# Altium footprint library SRN8040.PcbLib: 1 footprints
Each footprint in its own frame and in the unit in brackets; x right, y up, seen from the top. Pads: shape width x height; smd on the part's side, far side on the other; paste and mask are expansions set on the pad; w line width, h text height; cw(c..) or ccw(c..) is an arc to the next point about the centre after c.
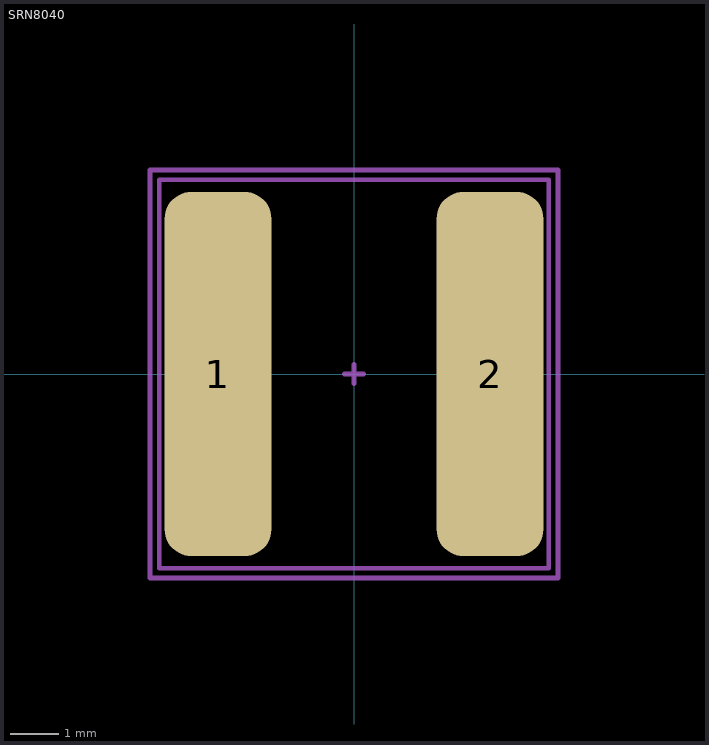
[diagram p0: the footprint, top view; thin cyan lines are the x and y axes]

## SRN8040 [mm]
pads (2):
  rrect50% 2.2x7.5 smd mask+0.05: 1(-2.8,0) 2(2.8,0)
Top Assembly:
  lines w0.1: -4.009,-4 -4.009,4 4.009,4 4.009,-4 -4.009,-4
Top Courtyard:
  lines w0.1: -0.2,0 0.2,0 ; 0,-0.2 0,0.2 ; -4.2,-4.2 -4.2,4.2 4.2,4.2 4.2,-4.2 -4.2,-4.2
3D body "User Library-Inductor SRN8040 Series.step": height 4, standoff 0, extent -4.009,-4 4.009,4